# Altium footprint library 0805-1.35MM.PcbLib: 1 footprints
Each footprint in its own frame and in the unit in brackets; x right, y up, seen from the top. Pads: shape width x height; smd on the part's side, far side on the other; paste and mask are expansions set on the pad; w line width, h text height; cw(c..) or ccw(c..) is an arc to the next point about the centre after c.
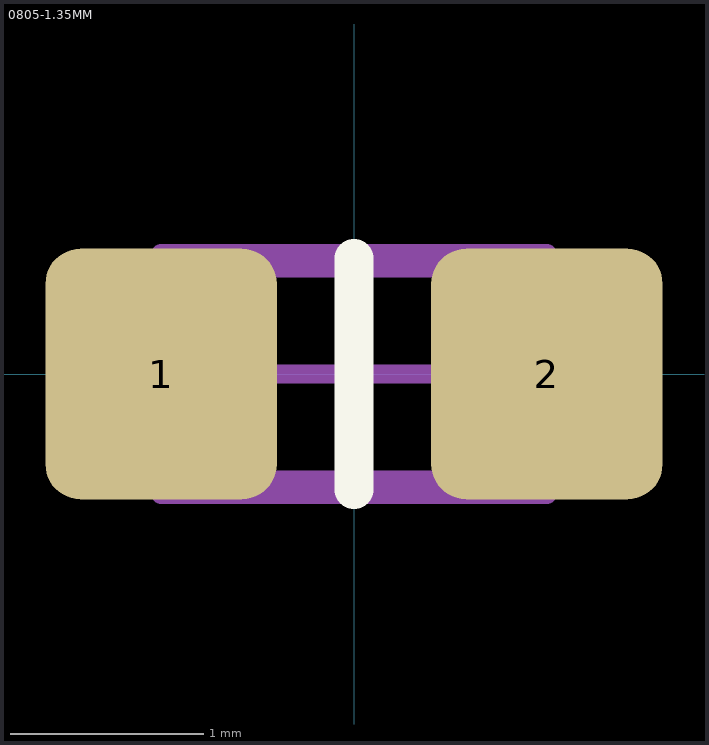
[diagram p0: the footprint, top view; thin cyan lines are the x and y axes]

## 0805-1.35MM [mm] "Chip Capacitor, Body 1.25x2mm, IPC High Density"
height 1.35
pads (2):
  rrect30% 1.2x1.3 smd: 1(-1,0) 2(1,0)
Top Overlay:
  lines w0.2: 0,-0.6 0,0.6
Mechanical 13:
  lines w0.1: -1,-0.625 -1,0.625 1,0.625 1,-0.625 -1,-0.625
Mechanical 15:
  lines w0.1: -0.475,0 0.475,0 ; 0,-0.475 0,0.475 ; -1.25,-0.55 -1.25,0.55 1.25,0.55 1.25,-0.55 -1.25,-0.55
3D body: height 1.35, standoff 0.15, extent -1,-0.6 1,0.6
3D body: height 1.2, standoff 0, extent -1,-0.6 1,0.6